# EAGLE library part JEBT-4R2GW (library rf-jqi)
Bias-Tee 0.1 to 4200 MHz, 500 mA max
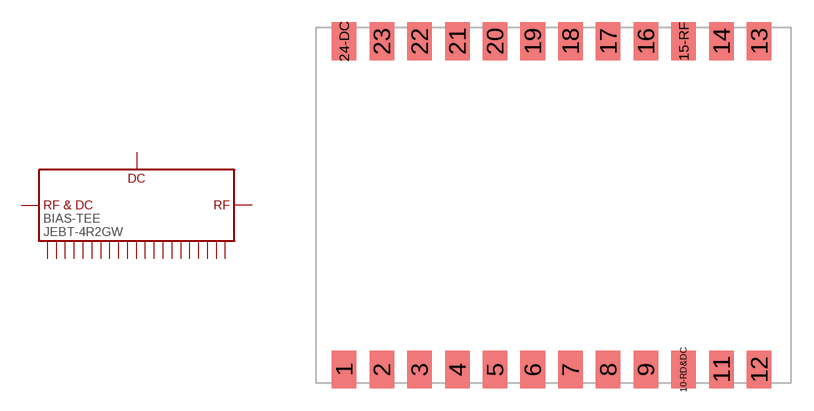
[diagram p10: symbol with the pads of BL301; footprint BL301]

Designator prefix BIAS-TEE

## JEBT-4R2GW  [BL301]
1  1-GND  sup
2  2-GND  sup
3  3-GND  sup
4  4-GND  sup
5  5-GND  sup
6  6-GND  sup
7  7-GND  sup
8  8-GND  sup
9  9-GND  sup
10-RD&DC  10-RF&DC
11  11-GND  sup
12  12-GND  sup
13  13-GND  sup
14  14-GND  sup
15-RF  15-RF  out
16  16-GND  sup
17  17-GND  sup
18  18-GND  sup
19  19-GND  sup
20  20-GND  sup
21  21-GND  sup
22  22-GND  sup
23  23-GND  sup
24-DC  24-DC  pwr

## Footprint BL301 (pad centres in mm)
smd 1.651 x 2.54: 1 -14.097,-11.049; 2 -11.557,-11.049; 3 -9.017,-11.049; 4 -6.477,-11.049; 5 -3.937,-11.049; 6 -1.397,-11.049; 7 1.143,-11.049; 8 3.683,-11.049; 9 6.223,-11.049; 10-RD&DC 8.763,-11.049; 11 11.303,-11.049; 12 13.843,-11.049; 13 13.843,11.049; 14 11.303,11.049; 15-RF 8.763,11.049; 16 6.223,11.049; 17 3.683,11.049; 18 1.143,11.049; 19 -1.397,11.049; 20 -3.937,11.049; 21 -6.477,11.049; 22 -9.017,11.049; 23 -11.557,11.049; 24-DC -14.097,11.049